# Altium schematic symbol library ArduCam.SchLib: 1 symbol
Pins are listed as number, name and electrical type; pins without a type are passive.

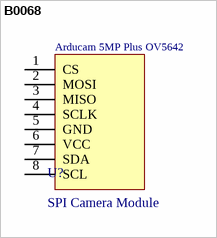
[diagram p0: symbol B0068]

## B0068
designator U?, comment SPI Camera Module
Arducam 5MP Plus OV5642 Mini Module Camera Shield SPI Camera Module for Arduino UNO Mega2560 Board & Raspberry Pi Pico
pins: 1 CS "SPI slave chip select input", 2 MOSI "SPI Master Output Slave Input", 3 MISO "SPI master input slave output", 4 SCLK "SPI Serial Clock", 5 GND "Ground", 6 VCC "5V POWER", 7 SDA "Two-Wire Serial Interface Data I/O", 8 SCL "Two-Wire Serial Interface Clock"
text: Arducam 5MP Plus OV5642